# Altium footprint library H4_6-port_EtherCAT_Junction_Module.PcbLib: 31 footprints (part 1 of 2)
Each footprint in its own frame and in the unit in brackets; x right, y up, seen from the top. Pads: shape width x height; smd on the part's side, far side on the other; paste and mask are expansions set on the pad; w line width, h text height; cw(c..) or ccw(c..) is an arc to the next point about the centre after c.
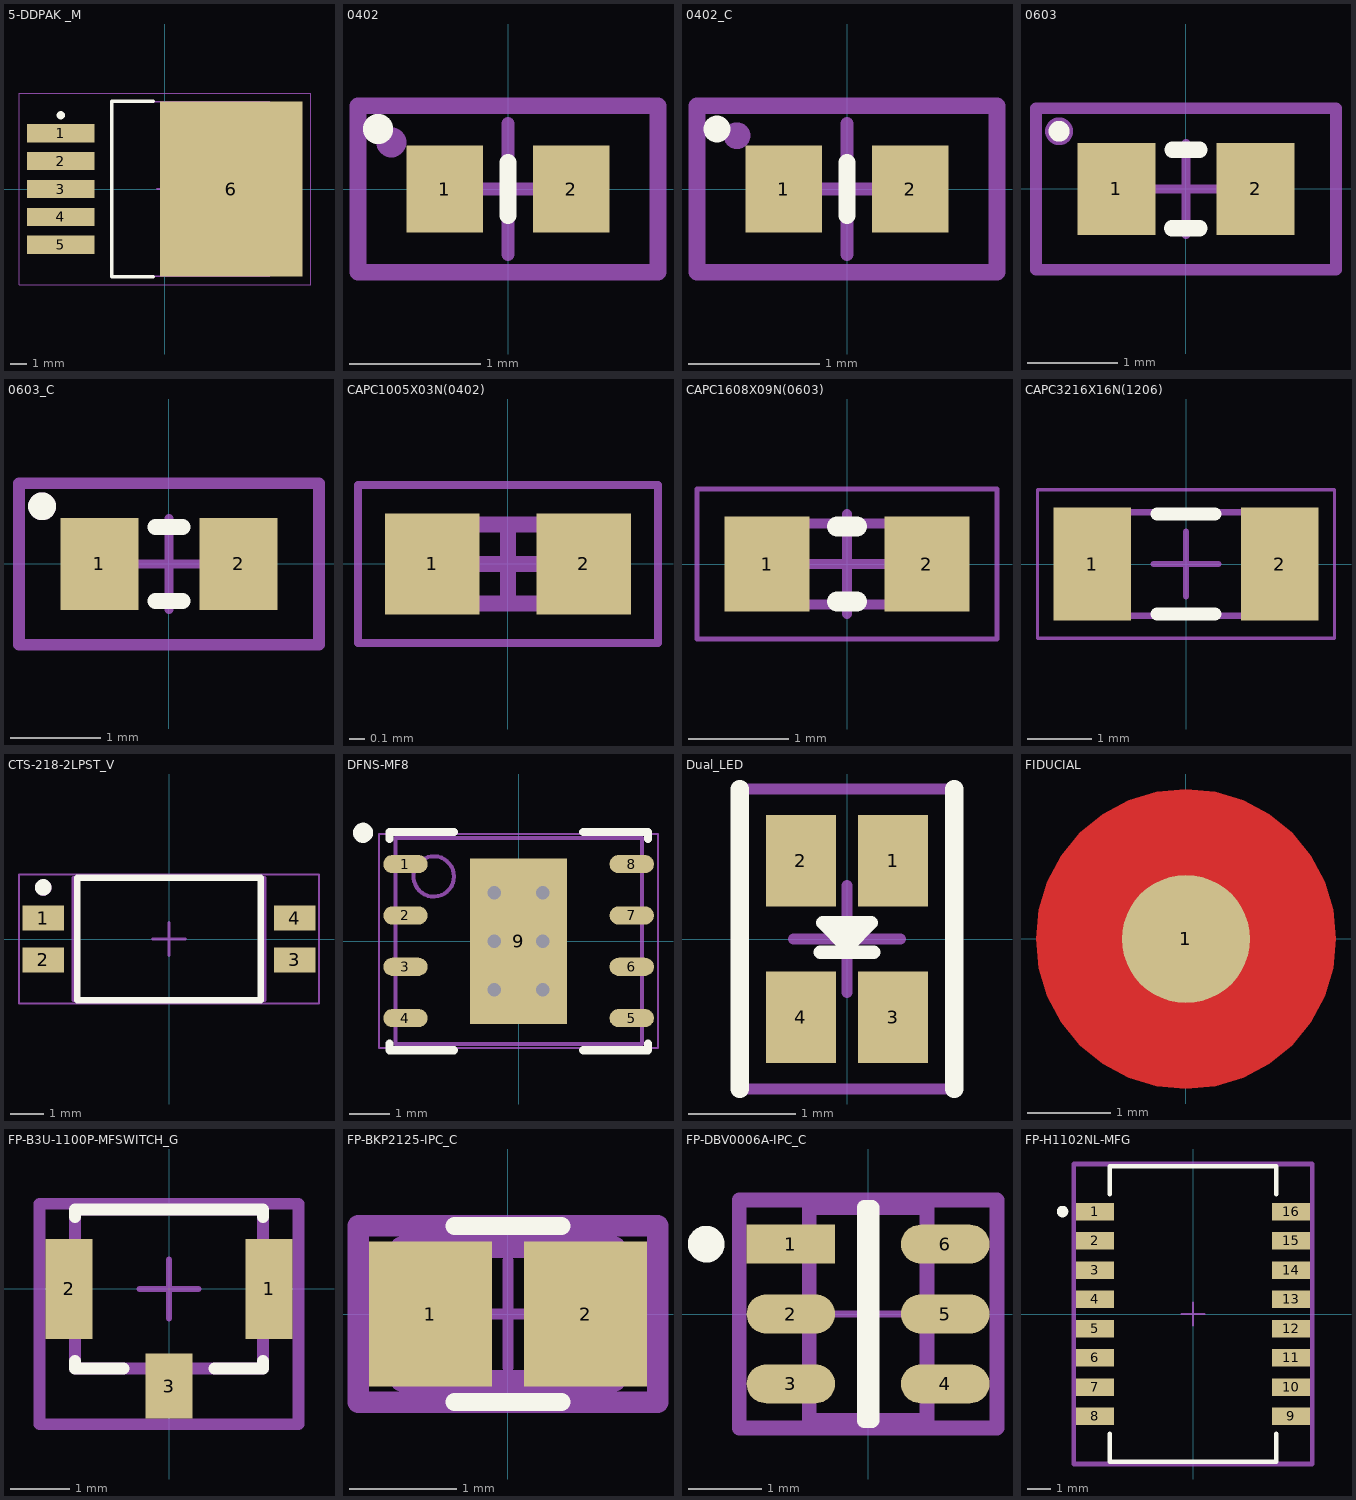
[diagram p0: the footprints below, top view; thin cyan lines are the x and y axes]

## 5-DDPAK _M [mm]
pads (6):
  rect 4.1x1.1 smd: 1(-6.35,3.4) 2(-6.35,1.7) 3(-6.35,0) 4(-6.35,-1.7) 5(-6.35,-3.4)
  rect 8.7x10.7 smd: 6(4.05,0)
Top Overlay:
  circle w0.25: c-6.35,4.5 r0.125
  lines w0.2: -0.7,-5.35 -3.25,-5.35 -3.25,5.35 -0.7,5.35
Top Designator:
  text ".Designator" at 0.08,0.395 h0.8
Top Component Outline:
  lines w0.1: -3.25,-5.325 -3.25,5.325 6.4,5.325 6.4,-5.325 -3.25,-5.325
Top Component Center:
  lines w0.1: -0.5,0 0.5,0 ; 0,-0.5 0,0.5
Top Courtyard:
  lines w0.05: -8.9,-5.85 -8.9,5.85 8.9,5.85 8.9,-5.85 -8.9,-5.85
3D body "User Library-TO-263BA-1.step": height 4.38, standoff 0, extent -6.567,-5.112 7.479,5.112

## 0402 [mil]
pads (2):
  rect 23x26 smd paste-1.5 mask+1: 1(-19,0) 2(19,0)
Top Overlay:
  circle w7: c-39,18 r1
  lines w5: 0,-7.99 0,8.01
Top Designator:
  text ".Designator" at -30,-15 h35
Top Component Center:
  lines w3.94: -19.69,0 19.68,0 ; 0,-19.69 0,19.68
Top Courtyard:
  circle w7: c-35,14 r1
  lines w5: -45,-25 45,-25 45,25 -45,25 -45,-25
3D body "SW3dPS-0402 SMD Resistor.STEP": height 7.95, standoff 0, extent -19.68,-11.8 19.69,11.82

## 0402_C [mil]
pads (2):
  rect 23x26 smd paste-1.5 mask+1: 1(-19,0) 2(19,0)
Top Overlay:
  circle w6: c-39,18 r1
  lines w5: 0,-8 0,8
Top Designator:
  text ".Designator" at -40,-15 h35
Top Component Center:
  lines w3.94: -19.69,0 19.68,0 ; 0,-19.69 0,19.68
Top Courtyard:
  circle w6: c-33,16 r1
  lines w5: -45,-25 45,-25 45,25 -45,25 -45,-25
3D body "User Library-Chip Cap_MLCC_0402 (1005).STEP": height 19.29, standoff -0.39, extent -19.69,-10 19.68,9.69

## 0603 [mil]
pads (2):
  rect 34x40 smd paste-1.5 mask+1: 1(-30.12,0) 2(30.12,0)
Top Overlay:
  circle w7: c-55,25 r1
  lines w7: -6,-17 5.81,-17 ; -5.91,17 5.91,17
Top Designator:
  text ".Designator" at -60.24,-25.59 h35
Top Component Center:
  lines w3.94: -19.69,0 19.68,0 ; 0,-19.69 0,19.68
Top Courtyard:
  circle w10: c-55,25 r1
  lines w5: -65,-35 -65,35 65,35 65,-35 -65,-35
3D body "User Library-CR1608-0603.step": height 17.72, standoff 0, extent -31.49,-15.74 31.5,15.75

## 0603_C [mil]
pads (2):
  rect 34x40 smd paste-1.5 mask+1: 1(-30.12,0) 2(30.12,0)
Top Overlay:
  circle w10: c-55,25 r1
  lines w7: -5.91,-16 5.91,-16 ; -5.91,16 5.91,16
Top Designator:
  text ".Designator" at -57.48,-21.65 h35
Top Component Center:
  lines w3.94: -19.69,0 19.68,0 ; 0,-19.69 0,19.68
Top Courtyard:
  circle w10: c-55,25 r1
  lines w5: -65,-35 -65,35 65,35 65,-35 -65,-35
3D body "User Library-CAP0603-2.step": height 31.5, standoff 0, extent -31.49,-15.74 31.51,15.76

## CAPC1005X03N(0402) [mm]
pads (2):
  rect 0.6x0.64 smd mask+0.05: 1(-0.48,0) 2(0.48,0)
Top Designator:
  text ".Designator" at -0.87,-0.29 h0.6
Top Component Outline:
  lines w0.1: -0.5,-0.25 -0.5,0.25 0.5,0.25 0.5,-0.25 -0.5,-0.25
Top Component Center:
  lines w0.1: -0.25,0 0.25,0 ; 0,-0.25 0,0.25
Top Courtyard:
  lines w0.05: -0.95,-0.5 -0.95,0.5 0.95,0.5 0.95,-0.5 -0.95,-0.5
3D body "CAPC1005X03N(0402).step": height 0.35, standoff 0, extent -0.5,-0.25 0.5,0.25

## CAPC1608X09N(0603) [mm]
pads (2):
  rect 0.85x0.95 smd: 1(-0.8,0) 2(0.8,0)
Top Overlay:
  lines w0.2: -0.1,-0.375 0.1,-0.375 ; -0.1,0.375 0.1,0.375
Top Designator:
  text ".Designator" at -1.3,-0.48 h0.89
Top Component Outline:
  lines w0.1: -0.8,-0.405 -0.8,0.405 0.8,0.405 0.8,-0.405 -0.8,-0.405
Top Component Center:
  lines w0.1: -0.5,0 0.5,0 ; 0,-0.5 0,0.5
Top Courtyard:
  lines w0.05: -1.5,-0.75 -1.5,0.75 1.5,0.75 1.5,-0.75 -1.5,-0.75
3D body "CAPC1608X09N(0603).step": height 0.9, standoff 0, extent -0.8,-0.405 0.8,0.405

## CAPC3216X16N(1206) [mm]
pads (2):
  rect 1.2x1.75 smd: 1(-1.45,0) 2(1.45,0)
Top Overlay:
  lines w0.2: -0.45,-0.775 0.45,-0.775 ; -0.45,0.775 0.45,0.775
Top Designator:
  text ".Designator" at -2.171,-0.863 h0.89
Top Component Outline:
  lines w0.1: -1.6,-0.8 1.6,-0.8 1.6,0.8 -1.6,0.8 -1.6,-0.8
Top Component Center:
  lines w0.1: -0.5,0 0.5,0 ; 0,-0.5 0,0.5
Top Courtyard:
  lines w0.05: -2.3,-1.15 2.3,-1.15 2.3,1.15 -2.3,1.15 -2.3,-1.15
3D body "CAPC3216X16N(1206).step": height 1.6, standoff 0, extent -1.6,-0.8 1.6,0.8

## CTS-218-2LPST_V [mm]
pads (4):
  rect 1.27x0.76 smd: 1(-3.81,0.635) 2(-3.81,-0.635) 3(3.81,-0.635) 4(3.81,0.635)
Top Overlay:
  circle w0.25: c-3.812,1.565 r0.125
  lines w0.2: -2.775,-1.855 2.775,-1.855 2.775,1.855 -2.775,1.855 -2.775,-1.855
Top Designator:
  text ".Designator" at -2.35,0.78 h0.6
Top Component Center:
  lines w0.1: -0.5,0 0.5,0 ; 0,-0.5 0,0.5
Mechanical 13:
  lines w0.1: -2.9,-1.855 -2.9,1.855 2.9,1.855 2.9,-1.855 -2.9,-1.855
Top Courtyard:
  circle w0.25: c-3.81,1.56 r0.125
  lines w0.05: -4.545,-1.955 -4.545,1.955 4.545,1.955 4.545,-1.955 -4.545,-1.955
3D body "218-2.STEP": height 2.5, standoff -0.01, extent -4.216,-1.86 4.216,1.85

## DFNS-MF8 [mm]
pads (9):
  oval 1.1x0.45 smd: 1(-2.8,1.905) 2(-2.8,0.635) 3(-2.8,-0.635) 4(-2.8,-1.905) 5(2.8,-1.905) 6(2.8,-0.635) 7(2.8,0.635) 8(2.8,1.905)
  rect 2.4x4.1 smd: 9(0,0)
via -0.6,1.2 diameter 0.66 hole 0.33
via 0.6,1.2 diameter 0.66 hole 0.33
via -0.6,0 diameter 0.66 hole 0.33
via 0.6,0 diameter 0.66 hole 0.33
via -0.6,-1.2 diameter 0.66 hole 0.33
via 0.6,-1.2 diameter 0.66 hole 0.33
Top Overlay:
  circle w0.25: c-3.85,2.68 r0.125
  lines w0.2: -3.2,-2.53 -3.2,-2.7 -1.6,-2.7 ; -3.2,2.53 -3.2,2.7 -1.6,2.7 ; 1.6,-2.7 3.2,-2.7 3.2,-2.53 ; 1.6,2.7 3.2,2.7 3.2,2.53
Top Designator:
  text ".Designator" at 0.02,0.25 h0.7
Top Component Center:
  lines w0.1: -0.5,0 0.5,0 ; 0,-0.5 0,0.5
Mechanical 13:
  circle w0.1: c-2.1,1.6 r0.5
  lines w0.1: -3.05,-2.55 -3.05,2.55 3.05,2.55 3.05,-2.55 -3.05,-2.55
Top Courtyard:
  lines w0.05: -3.45,-2.65 3.45,-2.65 3.45,2.65 -3.45,2.65 -3.45,-2.65
3D body: height 1, standoff 0, extent -3.05,-2.55 3.05,2.55

## Dual_LED [mm]
pads (4):
  rect 0.65x0.85 smd: 1(0.43,0.73) 2(-0.43,0.73) 3(0.43,-0.73) 4(-0.43,-0.73)
Top Overlay:
  rectangle: -0.075,0 0,0.15
  rectangle: 0,-0.075 0.075,0.15
  lines w0.125: -0.25,-0.125 0.25,-0.125 ; -0.225,0.15 0.225,0.15 0,-0.075 -0.225,0.15
  lines w0.17: -1,-1.4 -1,1.4 ; 1,-1.4 1,1.4
Top Designator:
  text ".Designator" at -0.891,-0.943 h0.89
Top Component Center:
  lines w0.1: -0.5,0 0.5,0 ; 0,-0.5 0,0.5
Top Courtyard:
  circle w0.1: c0.45,0.73 r0.025
  lines w0.1: -1,-1.4 1,-1.4 1,1.4 -1,1.4 -1,-1.4
3D body "DualLED.STEP": height 0.91, standoff 0, extent -0.75,-0.8 0.75,0.8

## FIDUCIAL [mil]
pads (1):
  round 60 smd paste-60 mask+30: 1(0,0)
Top Layer:
  pour cut-out: 70.34,0 68.99,13.72 64.98,26.92 58.48,39.08 49.74,49.74 39.08,58.48 26.92,64.98 13.72,68.99 0,70.34 -13.72,68.99 -26.92,64.98 -39.08,58.48 -49.74,49.74 -58.48,39.08 -64.98,26.92 -68.99,13.72 -70.34,0 -68.99,-13.72 -64.98,-26.92 -58.48,-39.08 -49.74,-49.74 -39.08,-58.48 -26.92,-64.98 -13.72,-68.99 0,-70.34 13.72,-68.99 26.92,-64.98 39.08,-58.48 49.74,-49.74 58.48,-39.08 64.98,-26.92 68.99,-13.72
Top Designator:
  text ".Designator" at -37.5,-10 h35
Top Component Center:
  lines w3.94: -19.68,0 19.68,0 ; 0,-19.68 0,19.68

## FP-B3U-1100P-MFSWITCH_G [mm]
pads (3):
  rect 0.8x1.7 smd paste+0 mask+0: 1(1.7,0) 2(-1.7,0)
  rect 0.8x1.1 smd paste+0 mask+0: 3(0,-1.65)
Top Overlay:
  lines w0.2: -1.6,-1.225 -1.6,-1.35 -0.775,-1.35 ; -1.6,1.225 -1.6,1.35 1.6,1.35 1.6,1.225 ; 0.775,-1.35 1.6,-1.35 1.6,-1.225
Mechanical 4:
  lines w0.2: -1.6,-1.35 1.6,-1.35 1.6,1.35 -1.6,1.35 -1.6,-1.35
Top Designator:
  text ".Designator" at -2.021,-1.323 h0.89
Top Component Outline:
  lines w0.2: -2.2,-2.3 2.2,-2.3 2.2,1.45 -2.2,1.45 -2.2,-2.3
Top Component Center:
  lines w0.1: -0.5,0 0.5,0 ; 0,-0.5 0,0.5
Top Courtyard:
  lines w0.17: -2.2,-2.3 2.2,-2.3 2.2,1.45 -2.2,1.45 -2.2,-2.3
3D body "Switch_Omron_B3U-1100P_eec.STEP": height 1.75, standoff 0, extent -2,-1.9 2,1.25

## FP-BKP2125-IPC_C [mm]
pads (2):
  rect 1.154x1.356 smd paste+0 mask+0: 1(-0.726,0) 2(0.726,0)
Top Overlay:
  lines w0.17: -0.5,-0.825 0.5,-0.825 ; -0.5,0.825 0.5,0.825
Top Designator:
  text ".Designator" at -1.241,-0.703 h0.89
Top Component Outline:
  lines w0.2: -1.403,-0.825 -1.403,0.825 1.403,0.825 1.403,-0.825 -1.403,-0.825 ; -1,-0.625 -1,0.625 1,0.625 1,-0.625 -1,-0.625
Top Component Center:
  lines w0.1: -0.5,0 0.5,0 ; 0,-0.5 0,0.5
Top Courtyard:
  lines w0.17: -1.403,-0.825 -1.403,0.825 1.403,0.825 1.403,-0.825 -1.403,-0.825
3D body "FBead_Taiyo_Yuden_BKP2125HS600-T_eec.STEP": height 0.25, standoff 0, extent -1.403,-0.825 1.403,0.825

## FP-DBV0006A-IPC_C [mm]
pads (6):
  rect 1.205x0.53 smd paste+0 mask+0: 1(-1.05,0.95)
  rrect100% 1.205x0.53 smd paste+0 mask+0: 2(-1.05,0) 3(-1.05,-0.95) 4(1.05,-0.95) 5(1.05,0) 6(1.05,0.95)
Top Overlay:
  circle w0.25: c-2.203,0.95 r0.125
  lines w0.2: -0.052,-1.45 -0.052,1.45 0.052,1.45 0.052,-1.45 -0.052,-1.45
Top Designator:
  text ".Designator" at -1.541,-1.193 h0.89
Top Component Outline:
  lines w0.2: -1.753,-1.55 1.753,-1.55 1.753,1.55 -1.753,1.55 -1.753,-1.55
Top Component Center:
  lines w0.1: -0.5,0 0.5,0 ; 0,-0.5 0,0.5
Mechanical 13:
  lines w0.2: -0.8,-1.45 0.8,-1.45 0.8,1.45 -0.8,1.45 -0.8,-1.45
Top Courtyard:
  lines w0.17: -1.753,-1.55 1.753,-1.55 1.753,1.55 -1.753,1.55 -1.753,-1.55
3D body "IC_Texas_Instruments_LM74700QDBVRQ1_eec.STEP": height 0.25, standoff 0, extent -1.753,-1.55 1.753,1.55

## FP-H1102NL-MFG [mm]
pads (16):
  rect 1.65x0.76 smd paste+0 mask+0: 1(-4.255,4.445) 2(-4.255,3.175) 3(-4.255,1.905) 4(-4.255,0.635) 5(-4.255,-0.635) 6(-4.255,-1.905) 7(-4.255,-3.175) 8(-4.255,-4.445) 9(4.255,-4.445) 10(4.255,-3.175) 11(4.255,-1.905) 12(4.255,-0.635) 13(4.255,0.635) 14(4.255,1.905) 15(4.255,3.175) 16(4.255,4.445)
Top Overlay:
  circle w0.25: c-5.67,4.45 r0.125
  lines w0.2: -3.62,-5.2 -3.62,-6.415 3.62,-6.415 3.62,-5.2 ; -3.62,5.2 -3.62,6.415 3.62,6.415 3.62,5.2
Top Designator:
  text ".Designator" at 0,0.188 h1
Top Component Center:
  lines w0.1: -0.5,0 0.5,0 ; 0,-0.5 0,0.5
Top Courtyard:
  lines w0.2: -5.18,-6.515 -5.18,6.515 5.18,6.515 5.18,-6.515 -5.18,-6.515
Top Assembly:
  lines w0.2: -5.18,-6.515 -5.18,6.515 5.18,6.515 5.18,-6.515 -5.18,-6.515
3D body "Trans_Pulse_Electronics_Corporation_H1102NL_eec.STEP": height 6.1, standoff 0, extent -4.763,-6.35 4.763,6.35